# Altium footprint library E-Lib.PcbLib: 36 footprints (part 2 of 3)
Each footprint in its own frame and in the unit in brackets; x right, y up, seen from the top. Pads: shape width x height; smd on the part's side, far side on the other; paste and mask are expansions set on the pad; w line width, h text height; cw(c..) or ccw(c..) is an arc to the next point about the centre after c.
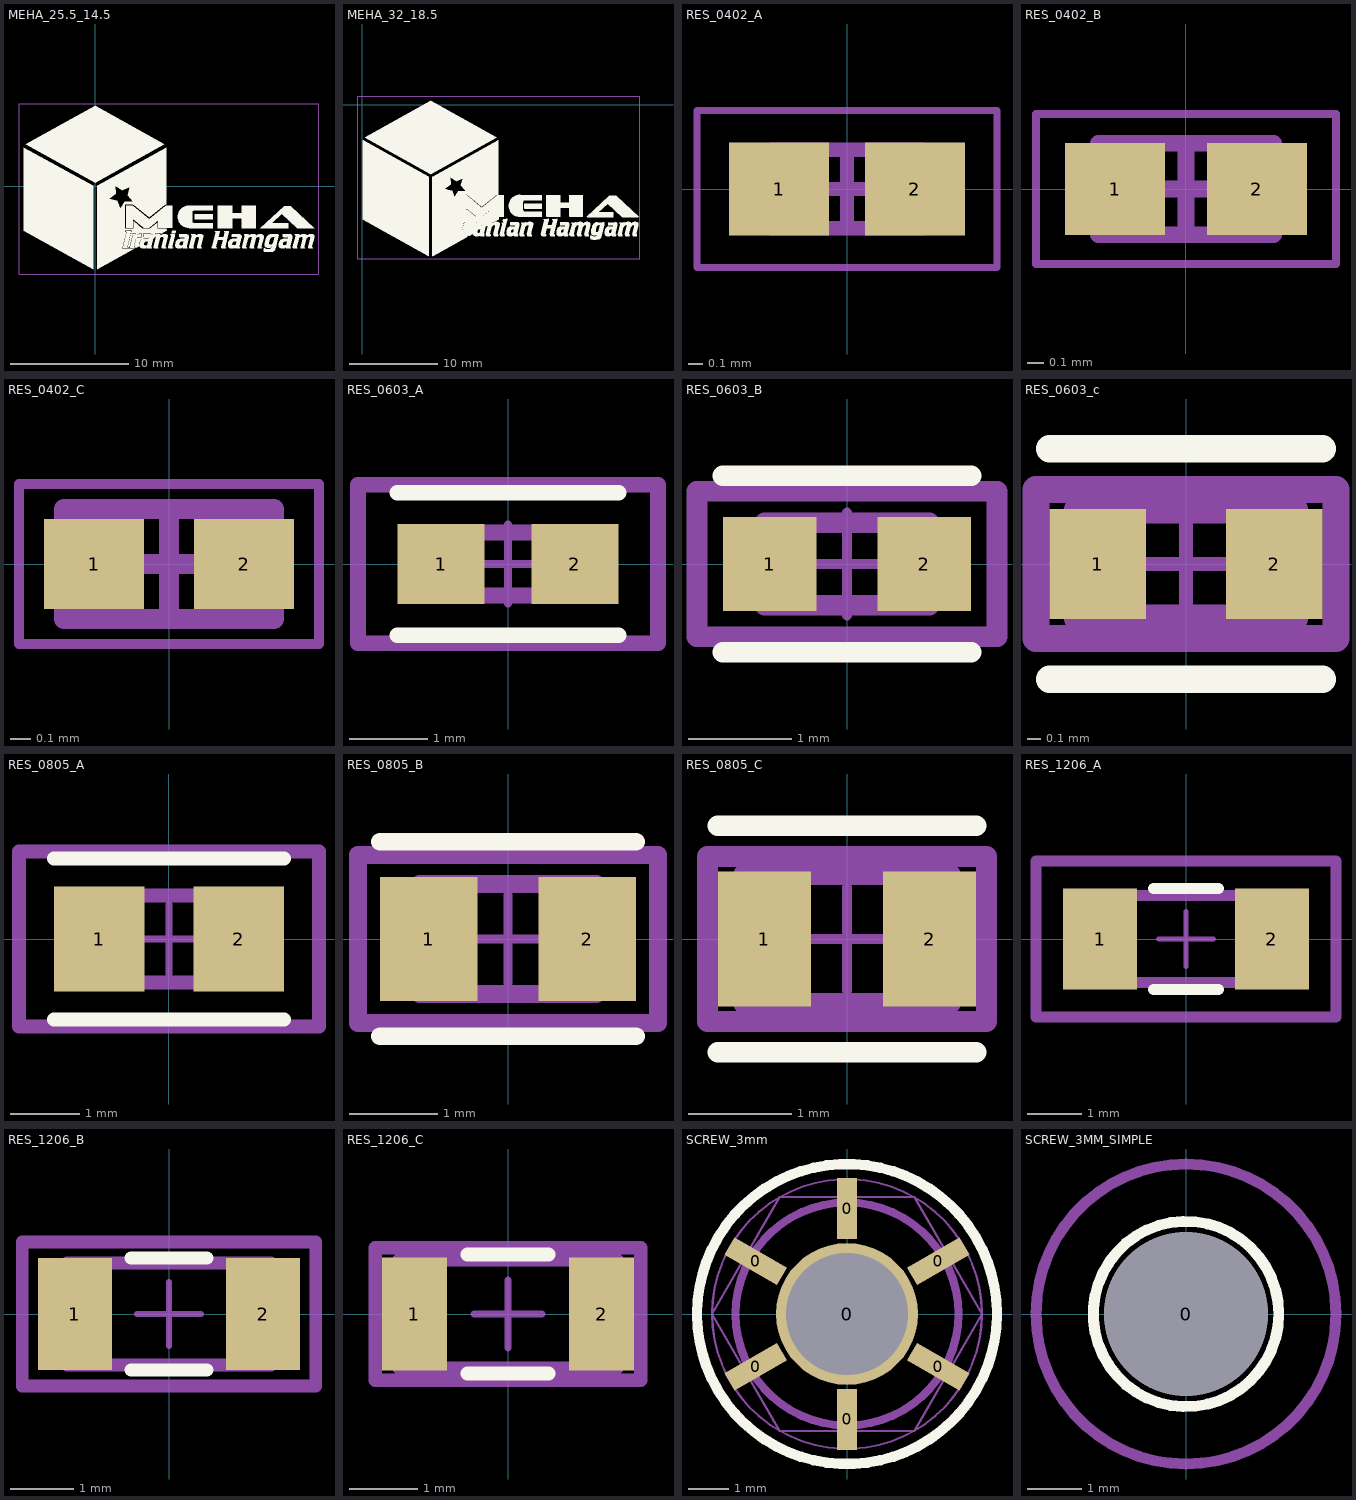
[diagram p1: the footprints below, top view; thin cyan lines are the x and y axes]

## MEHA_25.5_14.5 [mm]
Top Overlay:
  drawing of 32 lines, arcs and shapes, not listed
Mechanical 13:
  lines w0.01: -6.5,-7.5 19,-7.5 19,7 -6.5,7 -6.5,-7.5

## MEHA_32_18.5 [mm]
Top Overlay:
  drawing of 3683 lines, arcs and shapes, not listed
Mechanical 1:
  lines w0.01: -0.5,-17.5 -0.5,1 31.5,1 31.5,-17.5 -0.5,-17.5

## RES_0402_A [mm] "Chip Resistor, 2-Leads, Body 1.00x0.50mm, IPC Low Density"
height 0.55
pads (2):
  rect 0.7x0.65 smd: 1(-0.475,0) 2(0.475,0)
Mechanical 13:
  lines w0.1: -0.525,-0.275 0.525,-0.275 0.525,0.275 -0.525,0.275 -0.525,-0.275
Mechanical 15:
  lines w0.05: -1.05,-0.55 1.05,-0.55 1.05,0.55 -1.05,0.55 -1.05,-0.55
  lines w0.1: -0.275,0 0.275,0 ; 0,-0.275 0,0.275
3D body "RESC1005X06M.step": height 0.55, standoff 0, extent -0.525,-0.275 0.525,0.275

## RES_0402_B [mm] "Chip Resistor, 2-Leads, Body 1.00x0.50mm, IPC Medium Density"
height 0.55
pads (2):
  rect 0.6x0.55 smd: 1(-0.425,0) 2(0.425,0)
Mechanical 13:
  lines w0.1: -0.525,-0.275 -0.525,0.275 0.525,0.275 0.525,-0.275 -0.525,-0.275
Mechanical 15:
  lines w0.05: -0.9,-0.45 -0.9,0.45 0.9,0.45 0.9,-0.45 -0.9,-0.45
  lines w0.1: -0.275,0 0.275,0 ; 0,-0.275 0,0.275
3D body "RESC1005X06N.step": height 0.55, standoff 0, extent -0.525,-0.275 0.525,0.275

## RES_0402_C [mm] "Chip Resistor, 2-Leads, Body 1.00x0.50mm, IPC High Density"
height 0.55
pads (2):
  rect 0.5x0.45 smd: 1(-0.375,0) 2(0.375,0)
Mechanical 13:
  lines w0.1: -0.525,-0.275 0.525,-0.275 0.525,0.275 -0.525,0.275 -0.525,-0.275
Mechanical 15:
  lines w0.05: -0.75,-0.4 -0.75,0.4 0.75,0.4 0.75,-0.4 -0.75,-0.4
  lines w0.1: -0.275,0 0.275,0 ; 0,-0.275 0,0.275
3D body "RESC1005X06L.step": height 0.55, standoff 0, extent -0.525,-0.275 0.525,0.275

## RES_0603_A [mm] "Samsung resistor"
pads (2):
  rect 1.11x1.012 smd paste+0 mask+0: 1(-0.851,0) 2(0.851,0)
Top Overlay:
  lines w0.2: -1.406,-0.906 1.406,-0.906 ; -1.406,0.906 1.406,0.906
Mechanical 10:
  lines w0.2: -1.906,-1.006 1.906,-1.006 1.906,1.006 -1.906,1.006 -1.906,-1.006
  text ".Designator" at 0,0.188 h1
Mechanical 12:
  lines w0.2: -0.8,-0.4 0.8,-0.4 0.8,0.4 -0.8,0.4 -0.8,-0.4
Mechanical 15:
  lines w0.1: -0.5,0 0.5,0 ; 0,-0.5 0,0.5
  lines w0.2: -1.906,-1.006 1.906,-1.006 1.906,1.006 -1.906,1.006 -1.906,-1.006
3D body "Res_Samsung_RC1608F4991CS_eec.STEP": height 0.25, standoff 0, extent -1.906,-1.006 1.906,1.006

## RES_0603_B [mm] "Samsung resistor"
pads (2):
  rect 0.91x0.912 smd paste+0 mask+0: 1(-0.751,0) 2(0.751,0)
Top Overlay:
  lines w0.2: -1.206,-0.856 1.206,-0.856 ; -1.206,0.856 1.206,0.856
Mechanical 10:
  lines w0.2: -1.456,-0.706 1.456,-0.706 1.456,0.706 -1.456,0.706 -1.456,-0.706
  text ".Designator" at 0,0.188 h1
Mechanical 12:
  lines w0.2: -0.8,-0.4 0.8,-0.4 0.8,0.4 -0.8,0.4 -0.8,-0.4
Mechanical 15:
  lines w0.1: -0.5,0 0.5,0 ; 0,-0.5 0,0.5
  lines w0.2: -1.456,-0.706 1.456,-0.706 1.456,0.706 -1.456,0.706 -1.456,-0.706
3D body "Res_Samsung_RC1608F4991CS_eec.STEP": height 0.25, standoff 0, extent -1.456,-0.706 1.456,0.706

## RES_0603_c [mm] "Samsung resistor"
pads (2):
  rect 0.71x0.812 smd paste+0 mask+0: 1(-0.651,0) 2(0.651,0)
Top Overlay:
  lines w0.2: -1.006,-0.85 1.006,-0.85 ; -1.006,0.85 1.006,0.85
Mechanical 10:
  lines w0.2: -1.106,-0.55 1.106,-0.55 1.106,0.55 -1.106,0.55 -1.106,-0.55
  text ".Designator" at 0,0.188 h1
Mechanical 12:
  lines w0.2: -0.8,-0.4 0.8,-0.4 0.8,0.4 -0.8,0.4 -0.8,-0.4
Mechanical 15:
  lines w0.1: -0.5,0 0.5,0 ; 0,-0.5 0,0.5
  lines w0.2: -1.106,-0.55 1.106,-0.55 1.106,0.55 -1.106,0.55 -1.106,-0.55
3D body "Res_Samsung_RC1608F4991CS_eec.STEP": height 0.25, standoff 0, extent -1.106,-0.55 1.106,0.55

## RES_0805_A [mm] "Samsung resistor"
pads (2):
  rect 1.305x1.508 smd paste+0 mask+0: 1(-1.001,0) 2(1.001,0)
Top Overlay:
  lines w0.2: -1.653,-1.154 1.653,-1.154 ; -1.653,1.154 1.653,1.154
Mechanical 10:
  lines w0.2: -2.153,-1.254 2.153,-1.254 2.153,1.254 -2.153,1.254 -2.153,-1.254
  text ".Designator" at 0,0.188 h1
Mechanical 12:
  lines w0.2: -1,-0.625 1,-0.625 1,0.625 -1,0.625 -1,-0.625
Mechanical 15:
  lines w0.1: -0.5,0 0.5,0 ; 0,-0.5 0,0.5
  lines w0.2: -2.153,-1.254 2.153,-1.254 2.153,1.254 -2.153,1.254 -2.153,-1.254
3D body "Res_Samsung_RC2012J000CS_eec.STEP": height 0.25, standoff 0, extent -2.153,-1.254 2.153,1.254

## RES_0805_B [mil] "Samsung resistor"
pads (2):
  rect 43.5x55.44 smd paste+0 mask+0: 1(-35.46,0) 2(35.46,0)
Top Overlay:
  lines w7.87: -57.21,-43.47 57.21,-43.47 ; -57.21,43.47 57.21,43.47
Mechanical 10:
  lines w7.87: -67.05,-37.56 -67.05,37.56 67.05,37.56 67.05,-37.56 -67.05,-37.56
  text ".Designator" at 0,7.39 h39.37
Mechanical 12:
  lines w7.87: -39.37,-24.61 -39.37,24.61 39.37,24.61 39.37,-24.61 -39.37,-24.61
Mechanical 15:
  lines w3.94: -19.68,0 19.68,0 ; 0,-19.68 0,19.68
  lines w7.87: -67.05,-37.56 -67.05,37.56 67.05,37.56 67.05,-37.56 -67.05,-37.56
3D body "Res_Samsung_RC2012J000CS_eec.STEP": height 10, standoff 0, extent -67.05,-37.56 67.05,37.56

## RES_0805_C [mm] "Samsung resistor"
pads (2):
  rect 0.905x1.308 smd paste+0 mask+0: 1(-0.801,0) 2(0.801,0)
Top Overlay:
  lines w0.2: -1.253,-1.1 1.253,-1.1 ; -1.253,1.1 1.253,1.1
Mechanical 10:
  lines w0.2: -1.353,-0.8 1.353,-0.8 1.353,0.8 -1.353,0.8 -1.353,-0.8
  text ".Designator" at 0,0.188 h1
Mechanical 12:
  lines w0.2: -1,-0.625 1,-0.625 1,0.625 -1,0.625 -1,-0.625
Mechanical 15:
  lines w0.1: -0.5,0 0.5,0 ; 0,-0.5 0,0.5
  lines w0.2: -1.353,-0.8 1.353,-0.8 1.353,0.8 -1.353,0.8 -1.353,-0.8
3D body "Res_Samsung_RC2012J000CS_eec.STEP": height 0.25, standoff 0, extent -1.353,-0.8 1.353,0.8

## RES_1206_A [mm] "Samsung resistor"
pads (2):
  rect 1.355x1.858 smd paste+0 mask+0: 1(-1.576,0) 2(1.576,0)
Top Overlay:
  lines w0.2: -0.598,-0.929 0.598,-0.929 ; -0.598,0.929 0.598,0.929
Mechanical 10:
  lines w0.2: -2.753,-1.429 -2.753,1.429 2.753,1.429 2.753,-1.429 -2.753,-1.429
  text ".Designator" at 0,0.188 h1
Mechanical 12:
  lines w0.2: -1.6,-0.8 -1.6,0.8 1.6,0.8 1.6,-0.8 -1.6,-0.8
Mechanical 15:
  lines w0.1: -0.5,0 0.5,0 ; 0,-0.5 0,0.5
  lines w0.2: -2.753,-1.429 -2.753,1.429 2.753,1.429 2.753,-1.429 -2.753,-1.429
3D body "Res_Samsung_RC3216J472CS_eec.STEP": height 0.25, standoff 0, extent -2.753,-1.429 2.753,1.429

## RES_1206_B [mm] "Samsung resistor"
pads (2):
  rect 1.155x1.758 smd paste+0 mask+0: 1(-1.476,0) 2(1.476,0)
Top Overlay:
  lines w0.2: -0.598,-0.879 0.598,-0.879 ; -0.598,0.879 0.598,0.879
Mechanical 10:
  lines w0.2: -2.303,-1.129 2.303,-1.129 2.303,1.129 -2.303,1.129 -2.303,-1.129
  text ".Designator" at 0,0.188 h1
Mechanical 12:
  lines w0.2: -1.6,-0.8 1.6,-0.8 1.6,0.8 -1.6,0.8 -1.6,-0.8
Mechanical 15:
  lines w0.1: -0.5,0 0.5,0 ; 0,-0.5 0,0.5
  lines w0.2: -2.303,-1.129 2.303,-1.129 2.303,1.129 -2.303,1.129 -2.303,-1.129
3D body "Res_Samsung_RC3216J472CS_eec.STEP": height 0.25, standoff 0, extent -2.303,-1.129 2.303,1.129

## RES_1206_C [mm] "Samsung resistor"
pads (2):
  rect 0.955x1.658 smd paste+0 mask+0: 1(-1.376,0) 2(1.376,0)
Top Overlay:
  lines w0.2: -0.598,-0.875 0.598,-0.875 ; -0.598,0.875 0.598,0.875
Mechanical 10:
  lines w0.2: -1.953,-0.975 -1.953,0.975 1.953,0.975 1.953,-0.975 -1.953,-0.975
  text ".Designator" at 0,0.188 h1
Mechanical 12:
  lines w0.2: -1.6,-0.8 -1.6,0.8 1.6,0.8 1.6,-0.8 -1.6,-0.8
Mechanical 15:
  lines w0.1: -0.5,0 0.5,0 ; 0,-0.5 0,0.5
  lines w0.2: -1.953,-0.975 -1.953,0.975 1.953,0.975 1.953,-0.975 -1.953,-0.975
3D body "Res_Samsung_RC3216J472CS_eec.STEP": height 0.25, standoff 0, extent -1.953,-0.975 1.953,0.975

## SCREW_3mm [mm]
height 10.058
pads (7):
  rect 0.5x1.5 smd rot 120: 0(-2.252,-1.3) 0(2.252,1.3)
  rect 0.5x1.5 smd rot 60: 0(-2.252,1.3) 0(2.252,-1.3)
  rect 0.5x1.5 smd: 0(0,-2.6) 0(0,2.6)
  round 3.5 hole 3 mask+0: 0(0,0)
Top Overlay:
  circle w0.254: c0,0 r3.7
Mechanical 13:
  circle w0.051: c0,0 r3.327
  lines w0.051: -3.327,0 -1.663,-2.881 1.663,-2.881 3.327,0 1.663,2.881 -1.663,2.881 -3.327,0
Mechanical 15:
  circle w0.2: c0,0 r2.75

## SCREW_3MM_SIMPLE [mm]
pads (1):
  round 3 hole 3: 0(0,0)
Top Overlay:
  circle w0.2: c0,0 r1.7
Mechanical 15:
  circle w0.2: c0,0 r2.75